# EAGLE library part WIZ100SR (library WIZnet)
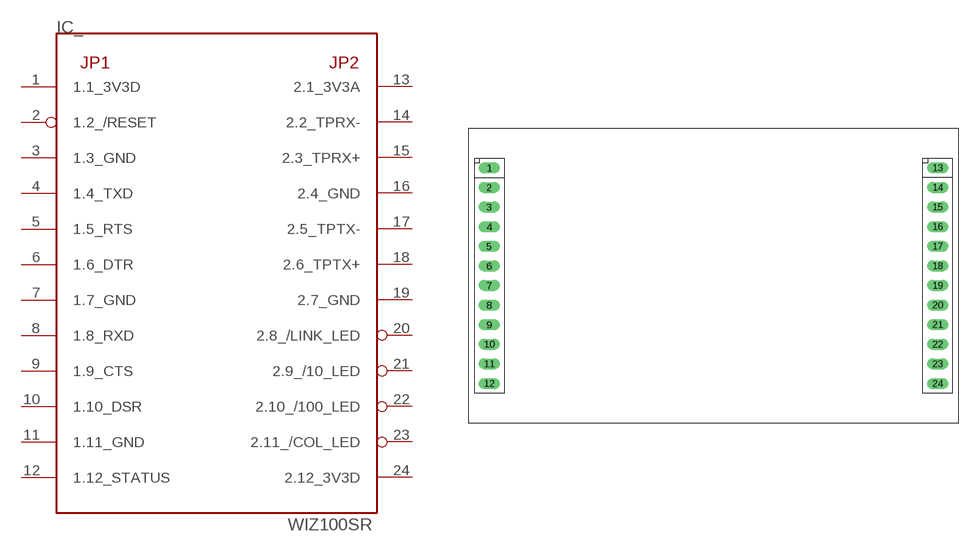
[diagram p9: symbol with the pads of WIZ100SR; footprint WIZ100SR]

Designator prefix IC_

## WIZ100SR  [WIZ100SR]
1  1.1_3V3D  pwr
2  1.2_/RESET
3  1.3_GND  pwr
4  1.4_TXD
5  1.5_RTS
6  1.6_DTR
7  1.7_GND  pwr
8  1.8_RXD
9  1.9_CTS
10  1.10_DSR
11  1.11_GND  pwr
12  1.12_STATUS
13  2.1_3V3A  pwr
14  2.2_TPRX-
15  2.3_TPRX+
16  2.4_GND  pwr
17  2.5_TPTX-
18  2.6_TPTX+
19  2.7_GND  pwr
20  2.8_/LINK_LED
21  2.9_/10_LED
22  2.10_/100_LED
23  2.11_/COL_LED
24  2.12_3V3D  pwr

## Footprint WIZ100SR (pad centres in mm)
drill 0.6 pad 1.016 long: 1 -22.85,11; 2 -22.85,9; 3 -22.85,7; 4 -22.85,5; 5 -22.85,3; 6 -22.85,1; 7 -22.85,-1; 8 -22.85,-3; 9 -22.85,-5; 10 -22.85,-7; 11 -22.85,-9; 12 -22.85,-11; 13 22.85,11; 14 22.85,9; 15 22.85,7; 16 22.85,5; 17 22.85,3; 18 22.85,1; 19 22.85,-1; 20 22.85,-3; 21 22.85,-5; 22 22.85,-7; 23 22.85,-9; 24 22.85,-11